# EAGLE library part UMH3N (library ts_custom_nick_nacks)
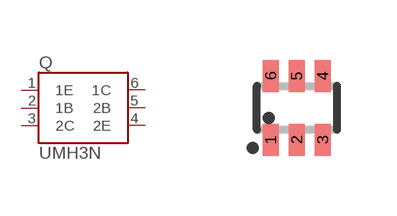
[diagram p15: symbol with the pads of SOT363_PHILIPS; footprint SOT363_PHILIPS]

Designator prefix Q

## UMH3NSOT-363  [SOT363_PHILIPS]
1  1E
2  1B
3  2C
4  2E
5  2B
6  1C

## Footprint SOT363_PHILIPS (pad centres in mm)
Small Outline Transistor; 6 leads Philips Semiconductors, SOT363.pdf
smd 0.4 x 0.8: 1 -0.65,-0.8; 2 0,-0.8; 3 0.65,-0.8; 4 0.65,0.8; 5 0,0.8; 6 -0.65,0.8